# Altium schematic symbol library SK44BL-TP.SchLib: 1 symbol
Pins are listed as number, name and electrical type; pins without a type are passive.

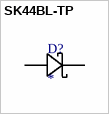
[diagram p0: symbol SK44BL-TP]

## SK44BL-TP
designator D?
footprint SMB
pins: 1, 2